# Altium integrated library STMicro-STM32F0.IntLib: 143 symbols (part 10 of 11)
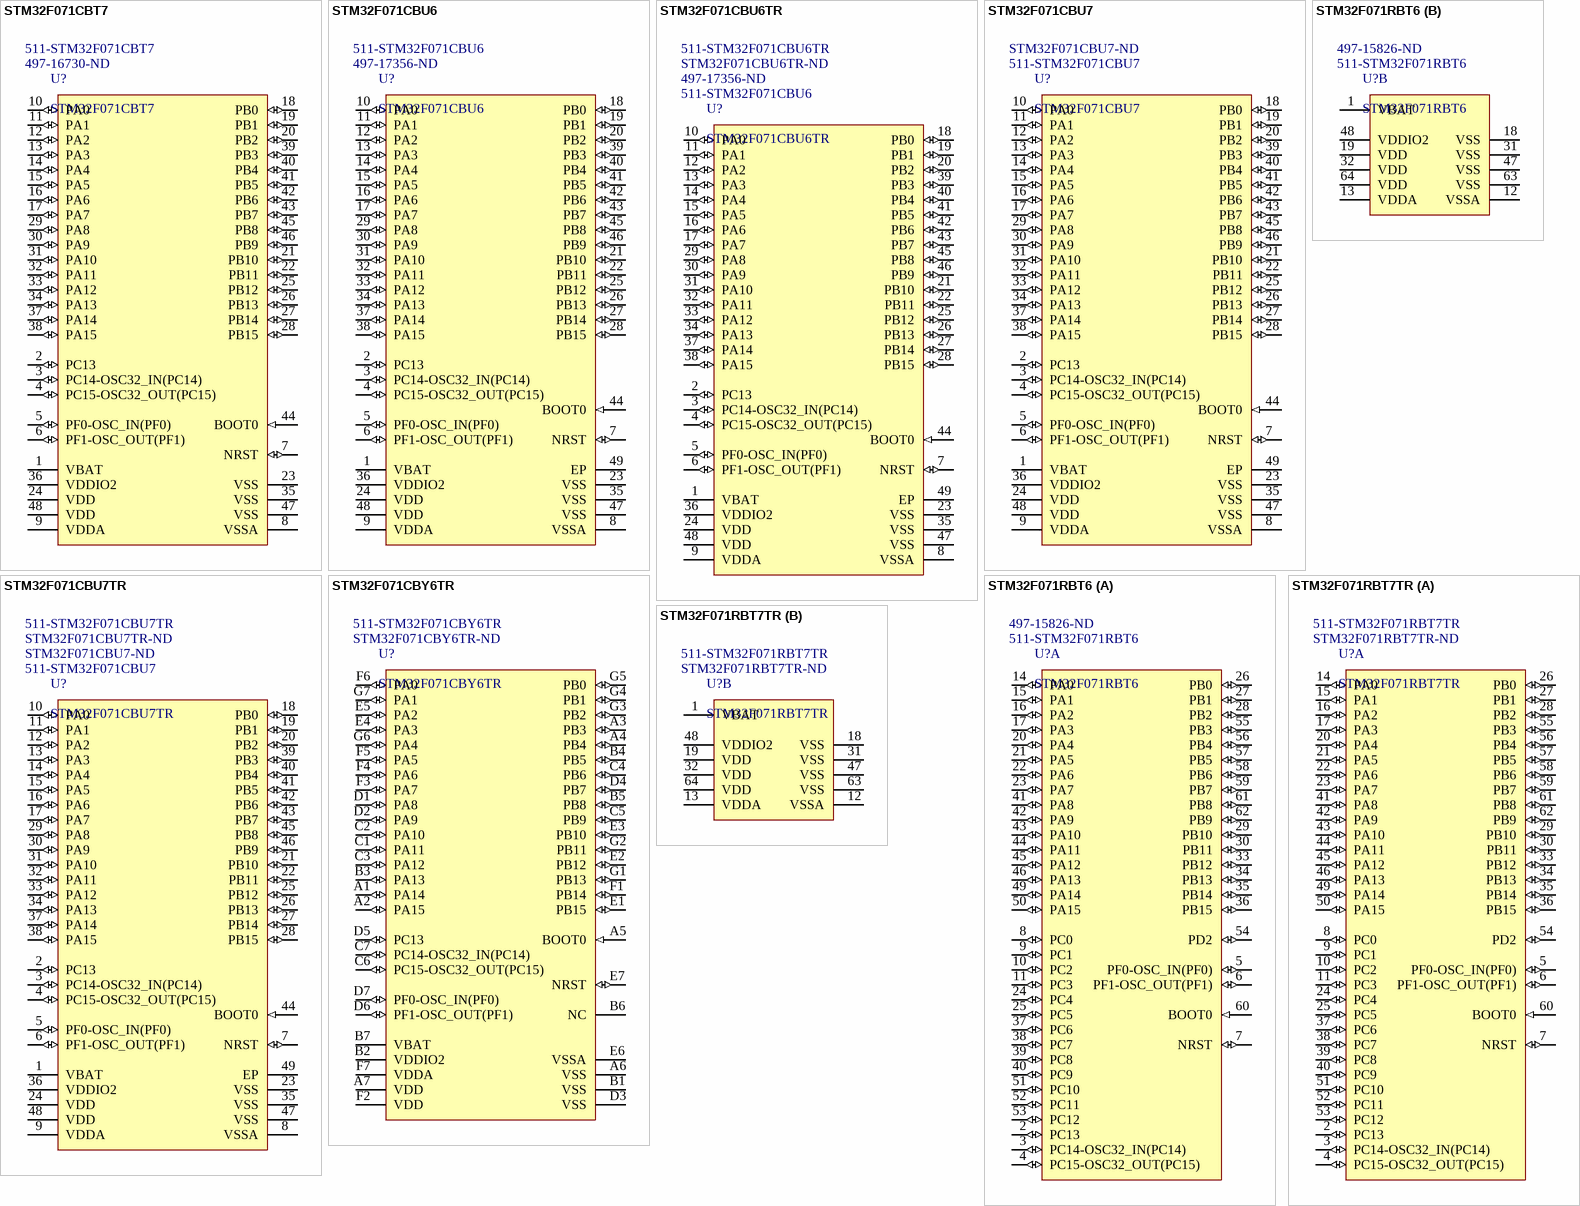
[diagram p23: symbols STM32F071CBT7 to STM32F071RBT7TR]

## STM32F071CBU6
designator U?  Supplier Part Number 1: 497-17356-ND  Supplier Part Number 2: 511-STM32F071CBU6
ARM Cortex-M0 32-bit MCU, 128 KB Flash, 16 KB Internal RAM, 37 I/Os, 48-Pin UFQFPN, -40 to 85 degC, Tray; Operating Frequency(F) (Processor speed) (MHz): 48; D/A Converter: 2; I/Os (High Current): 37; Internal RAM Size (kB): 16; FLASH Size (Prog) (kB): 128; ComponentLink2Description: Datasheet; DatasheetVersion: Rev. 6; ComponentLink2URL: http://www.st.com/st-web-ui/static/active/en/resource/technical/document/datasheet/DM00098745.pdf; Mounting Technology: Surface Mount; Core: ARM Cortex-M0; Packing: Tray; ComponentLink1Description: Manufacturer URL; Supply Voltage(Vcc) min (V): 2; Package Reference: UFQFPN48; Package Description: 48-Pin Ultra Thin Fine Pitch Quad Flat No-Lead, 7 x 7 x 0.6 mm Body, 0.5 mm Pitch, Exposed Pad; ComponentLink1URL: http://www.st.com/; Supplier 1: Digi-Key; Supplier 2: Mouser
footprint STM-UFQFPN48_L (QFN, 48-Leads, Body 7.1x7.1mm, Pitch 0.5mm, Thermal Pad 5.6x5.6mm, IPC High Density)
footprint STM-UFQFPN48_N (QFN, 48-Leads, Body 7.1x7.1mm, Pitch 0.5mm, Thermal Pad 5.6x5.6mm, IPC Medium Density)
footprint STM-UFQFPN48_M (QFN, 48-Leads, Body 7.1x7.1mm, Pitch 0.5mm, Thermal Pad 5.6x5.6mm, IPC Low Density)
pins: 1 VBAT (power) "Backup power supply", 2 PC13 (io) "PC13/WKUP2,RTC_TAMP1,RTC_TS,RTC_OUT", 3 PC14-OSC32_IN(PC14) (io) "PC14-OSC32_IN(PC14)/OSC32_IN", 4 PC15-OSC32_OUT(PC15) (io) "PC15-OSC32_OUT(PC15)/OSC32_OUT", 5 PF0-OSC_IN(PF0) (io) "PF0-OSC_IN(PF0)/CRS_SYNC/OSC_IN", 6 PF1-OSC_OUT(PF1) (io) "PF1-OSC_OUT(PF1)/OSC_OUT", 7 NRST (io) "Device reset input/internal reset output(active low)", 8 VSSA (power) "Analog ground", 9 VDDA (power) "Analog power supply", 10 PA0 (io) "PA0/USART2_CTS,TIM2_CH1_ETR,TSC_G1_IO1,USART4_TX/RTC_TAMP2,WKUP1,COMP1_OUT,ADC_IN0,COMP1_INM6", 11 PA1 (io) "PA1/USART2_RTS,TIM2_CH2,TIM15_CH1N,TSC_G1_IO2,USART4_RX,EVENTOUT/ADC_IN1,COMP1_INP", 12 PA2 (io) "PA2/USART2_TX,TIM2_CH3,TIM15_CH1,TSC_G1_IO3/ADC_IN2,COMP2_OUT,COMP2_INM6,WKUP4", 13 PA3 (io) "PA3/USART2_RX,TIM2_CH4,TIM15_CH2,TSC_G1_IO4/ADC_IN3,COMP2_INP", 14 PA4 (io) "PA4/SPI1_NSS,I2S1_WS,TIM14_CH1,TSC_G2_IO1,USART2_CK/COMP1_INM4,COMP2_INM4,ADC_IN4,DAC_OUT1", 15 PA5 (io) "PA5/SPI1_SCK,I2S1_CK,CEC,TIM2_CH1_ETR,TSC_G2_IO2/COMP1_INM5,COMP2_INM5,ADC_IN5,DAC_OUT2", 16 PA6 (io) "PA6/SPI1_MISO,I2S1_MCK,TIM3_CH1,TIM1_BKIN,TIM16_CH1,COMP1_OUT,TSC_G2_IO3,EVENTOUT,USART3_CTS/ADC_IN6", 17 PA7 (io) "PA7/SPI1_MOSI,I2S1_SD,TIM3_CH2,TIM14_CH1,TIM1_CH1N,TIM17_CH1,COMP2_OUT,TSC_G2_IO4,EVENTOUT/ADC_IN7", 18 PB0 (io) "PB0/TIM3_CH3,TIM1_CH2N,TSC_G3_IO2,EVENTOUT,USART3_CK/ADC_IN8", 19 PB1 (io) "PB1/TIM3_CH4,USART3_RTS,TIM14_CH1,TIM1_CH3N,TSC_G3_IO3/ADC_IN9", 20 PB2 (io) "PB2/TSC_G3_IO4", 21 PB10 (io) "PB10/SPI2_SCK,I2C2_SCL,USART3_TX,CEC,TSC_SYNC,TIM2_CH3", 22 PB11 (io) "PB11/USART3_RX,TIM2_CH4,EVENTOUT,TSC_G6_IO1,I2C2_SDA", 23 VSS (power) "Ground", 24 VDD (power) "Digital power supply", 25 PB12 (io) "PB12/TIM1_BKIN,TIM15_BKIN,SPI2_NSS,I2S2_WS,USART3_CK,TSC_G6_IO2,EVENTOUT", 26 PB13 (io) "PB13/SPI2_SCK,I2S2_CK,I2C2_SCL,USART3_CTS,TIM1_CH1N,TSC_G6_IO3", 27 PB14 (io) "PB14/SPI2_MISO,I2S2_MCK,I2C2_SDA,USART3_RTS,TIM1_CH2N,TIM15_CH1,TSC_G6_IO4", 28 PB15 (io) "PB15/SPI2_MOSI,I2S2_SD,TIM1_CH3N,TIM15_CH1N,TIM15_CH2/WKUP7,RTC_REFIN", 29 PA8 (io) "PA8/USART1_CK,TIM1_CH1,EVENTOUT,MCO,CRS_SYNC", 30 PA9 (io) "PA9/USART1_TX,TIM1_CH2,TIM15_BKIN,TSC_G4_IO1", 31 PA10 (io) "PA10/USART1_RX,TIM1_CH3,TIM17_BKIN,TSC_G4_IO2", 32 PA11 (io) "PA11/USART1_CTS,TIM1_CH4,COMP1_OUT,TSC_G4_IO3,EVENTOUT", 33 PA12 (io) "PA12/USART1_RTS,TIM1_ETR,COMP2_OUT,TSC_G4_IO4,EVENTOUT", 34 PA13 (io) "PA13/IR_OUT,SWDIO", 35 VSS (power) "Ground", 36 VDDIO2 (power) "Digital power supply", 37 PA14 (io) "PA14/USART2_TX,SWCLK", 38 PA15 (io) "PA15/SPI1_NSS,I2S1_WS,USART2_RX,USART4_RTS,TIM2_CH1_ETR,EVENTOUT", 39 PB3 (io) "PB3/SPI1_SCK,I2S1_CK,TIM2_CH2,TSC_G5_IO1,EVENTOUT", 40 PB4 (io) "PB4/SPI1_MISO,I2S1_MCK,TIM17_BKIN,TIM3_CH1,TSC_G5_IO2,EVENTOUT", 41 PB5 (io) "PB5/SPI1_MOSI,I2S1_SD,I2C1_SMBA,TIM16_BKIN,TIM3_CH2/WKUP6", 42 PB6 (io) "PB6/I2C1_SCL,USART1_TX,TIM16_CH1N,TSC_G5_IO3", 43 PB7 (io) "PB7/I2C1_SDA,USART1_RX,USART4_CTS,TIM17_CH1N,TSC_G5_IO4", 44 BOOT0 (in) "Boot memory selection", 45 PB8 (io) "PB8/I2C1_SCL,CEC,TIM16_CH1,TSC_SYNC", 46 PB9 (io) "PB9/SPI2_NSS,I2S2_WS,I2C1_SDA,IR_OUT,TIM17_CH1,EVENTOUT", 47 VSS (power) "Ground", 48 VDD (power) "Digital power supply", 49 EP (power)

## STM32F071CBU6TR
designator U?  Supplier Part Number 1: 511-STM32F071CBU6  Supplier Part Number 2: 497-17356-ND  Supplier Part Number 3: STM32F071CBU6TR-ND  Supplier Part Number 4: 511-STM32F071CBU6TR
ARM Cortex-M0 32-bit MCU, 128 KB Flash, 16 KB Internal RAM, 37 I/Os, 48-Pin UFQFPN, -40 to 85 degC, Tape and Reel; I/Os (High Current): 37; FLASH Size (Prog) (kB): 128; D/A Converter: 2; Internal RAM Size (kB): 16; Operating Frequency(F) (Processor speed) (MHz): 48; Package Description: 48-Pin Ultra Thin Fine Pitch Quad Flat No-Lead, 7 x 7 x 0.6 mm Body, 0.5 mm Pitch, Exposed Pad; Mounting Technology: Surface Mount; DatasheetVersion: Rev. 6; ComponentLink2Description: Datasheet; Core: ARM Cortex-M0; Supply Voltage(Vcc) min (V): 2; ComponentLink1URL: http://www.st.com/; ComponentLink1Description: Manufacturer URL; Packing: Tape and Reel; ComponentLink2URL: http://www.st.com/st-web-ui/static/active/en/resource/technical/document/datasheet/DM00098745.pdf; Package Reference: UFQFPN48; Supplier 1: Mouser; Supplier 2: Digi-Key; Supplier 3: Digi-Key; Supplier 4: Mouser
footprint STM-UFQFPN48_L (QFN, 48-Leads, Body 7.1x7.1mm, Pitch 0.5mm, Thermal Pad 5.6x5.6mm, IPC High Density)
footprint STM-UFQFPN48_N (QFN, 48-Leads, Body 7.1x7.1mm, Pitch 0.5mm, Thermal Pad 5.6x5.6mm, IPC Medium Density)
footprint STM-UFQFPN48_M (QFN, 48-Leads, Body 7.1x7.1mm, Pitch 0.5mm, Thermal Pad 5.6x5.6mm, IPC Low Density)
pins: 1 VBAT (power) "Backup power supply", 2 PC13 (io) "PC13/WKUP2,RTC_TAMP1,RTC_TS,RTC_OUT", 3 PC14-OSC32_IN(PC14) (io) "PC14-OSC32_IN(PC14)/OSC32_IN", 4 PC15-OSC32_OUT(PC15) (io) "PC15-OSC32_OUT(PC15)/OSC32_OUT", 5 PF0-OSC_IN(PF0) (io) "PF0-OSC_IN(PF0)/CRS_SYNC/OSC_IN", 6 PF1-OSC_OUT(PF1) (io) "PF1-OSC_OUT(PF1)/OSC_OUT", 7 NRST (io) "Device reset input/internal reset output(active low)", 8 VSSA (power) "Analog ground", 9 VDDA (power) "Analog power supply", 10 PA0 (io) "PA0/USART2_CTS,TIM2_CH1_ETR,TSC_G1_IO1,USART4_TX/RTC_TAMP2,WKUP1,COMP1_OUT,ADC_IN0,COMP1_INM6", 11 PA1 (io) "PA1/USART2_RTS,TIM2_CH2,TIM15_CH1N,TSC_G1_IO2,USART4_RX,EVENTOUT/ADC_IN1,COMP1_INP", 12 PA2 (io) "PA2/USART2_TX,TIM2_CH3,TIM15_CH1,TSC_G1_IO3/ADC_IN2,COMP2_OUT,COMP2_INM6,WKUP4", 13 PA3 (io) "PA3/USART2_RX,TIM2_CH4,TIM15_CH2,TSC_G1_IO4/ADC_IN3,COMP2_INP", 14 PA4 (io) "PA4/SPI1_NSS,I2S1_WS,TIM14_CH1,TSC_G2_IO1,USART2_CK/COMP1_INM4,COMP2_INM4,ADC_IN4,DAC_OUT1", 15 PA5 (io) "PA5/SPI1_SCK,I2S1_CK,CEC,TIM2_CH1_ETR,TSC_G2_IO2/COMP1_INM5,COMP2_INM5,ADC_IN5,DAC_OUT2", 16 PA6 (io) "PA6/SPI1_MISO,I2S1_MCK,TIM3_CH1,TIM1_BKIN,TIM16_CH1,COMP1_OUT,TSC_G2_IO3,EVENTOUT,USART3_CTS/ADC_IN6", 17 PA7 (io) "PA7/SPI1_MOSI,I2S1_SD,TIM3_CH2,TIM14_CH1,TIM1_CH1N,TIM17_CH1,COMP2_OUT,TSC_G2_IO4,EVENTOUT/ADC_IN7", 18 PB0 (io) "PB0/TIM3_CH3,TIM1_CH2N,TSC_G3_IO2,EVENTOUT,USART3_CK/ADC_IN8", 19 PB1 (io) "PB1/TIM3_CH4,USART3_RTS,TIM14_CH1,TIM1_CH3N,TSC_G3_IO3/ADC_IN9", 20 PB2 (io) "PB2/TSC_G3_IO4", 21 PB10 (io) "PB10/SPI2_SCK,I2C2_SCL,USART3_TX,CEC,TSC_SYNC,TIM2_CH3", 22 PB11 (io) "PB11/USART3_RX,TIM2_CH4,EVENTOUT,TSC_G6_IO1,I2C2_SDA", 23 VSS (power) "Ground", 24 VDD (power) "Digital power supply", 25 PB12 (io) "PB12/TIM1_BKIN,TIM15_BKIN,SPI2_NSS,I2S2_WS,USART3_CK,TSC_G6_IO2,EVENTOUT", 26 PB13 (io) "PB13/SPI2_SCK,I2S2_CK,I2C2_SCL,USART3_CTS,TIM1_CH1N,TSC_G6_IO3", 27 PB14 (io) "PB14/SPI2_MISO,I2S2_MCK,I2C2_SDA,USART3_RTS,TIM1_CH2N,TIM15_CH1,TSC_G6_IO4", 28 PB15 (io) "PB15/SPI2_MOSI,I2S2_SD,TIM1_CH3N,TIM15_CH1N,TIM15_CH2/WKUP7,RTC_REFIN", 29 PA8 (io) "PA8/USART1_CK,TIM1_CH1,EVENTOUT,MCO,CRS_SYNC", 30 PA9 (io) "PA9/USART1_TX,TIM1_CH2,TIM15_BKIN,TSC_G4_IO1", 31 PA10 (io) "PA10/USART1_RX,TIM1_CH3,TIM17_BKIN,TSC_G4_IO2", 32 PA11 (io) "PA11/USART1_CTS,TIM1_CH4,COMP1_OUT,TSC_G4_IO3,EVENTOUT", 33 PA12 (io) "PA12/USART1_RTS,TIM1_ETR,COMP2_OUT,TSC_G4_IO4,EVENTOUT", 34 PA13 (io) "PA13/IR_OUT,SWDIO", 35 VSS (power) "Ground", 36 VDDIO2 (power) "Digital power supply", 37 PA14 (io) "PA14/USART2_TX,SWCLK", 38 PA15 (io) "PA15/SPI1_NSS,I2S1_WS,USART2_RX,USART4_RTS,TIM2_CH1_ETR,EVENTOUT", 39 PB3 (io) "PB3/SPI1_SCK,I2S1_CK,TIM2_CH2,TSC_G5_IO1,EVENTOUT", 40 PB4 (io) "PB4/SPI1_MISO,I2S1_MCK,TIM17_BKIN,TIM3_CH1,TSC_G5_IO2,EVENTOUT", 41 PB5 (io) "PB5/SPI1_MOSI,I2S1_SD,I2C1_SMBA,TIM16_BKIN,TIM3_CH2/WKUP6", 42 PB6 (io) "PB6/I2C1_SCL,USART1_TX,TIM16_CH1N,TSC_G5_IO3", 43 PB7 (io) "PB7/I2C1_SDA,USART1_RX,USART4_CTS,TIM17_CH1N,TSC_G5_IO4", 44 BOOT0 (in) "Boot memory selection", 45 PB8 (io) "PB8/I2C1_SCL,CEC,TIM16_CH1,TSC_SYNC", 46 PB9 (io) "PB9/SPI2_NSS,I2S2_WS,I2C1_SDA,IR_OUT,TIM17_CH1,EVENTOUT", 47 VSS (power) "Ground", 48 VDD (power) "Digital power supply", 49 EP (power)

## STM32F071CBU7
designator U?  Supplier Part Number 1: 511-STM32F071CBU7  Supplier Part Number 2: STM32F071CBU7-ND
ARM Cortex-M0 32-bit MCU, 128 KB Flash, 16 KB Internal RAM, 37 I/Os, 48-Pin UFQFPN, -40 to 105 degC, Tray; FLASH Size (Prog) (kB): 128; Operating Frequency(F) (Processor speed) (MHz): 48; Internal RAM Size (kB): 16; Supply Voltage(Vcc) min (V): 2; I/Os (High Current): 37; ComponentLink1Description: Manufacturer URL; ComponentLink2URL: http://www.st.com/st-web-ui/static/active/en/resource/technical/document/datasheet/DM00098745.pdf; ComponentLink1URL: http://www.st.com/; ComponentLink2Description: Datasheet; Packing: Tray; Mounting Technology: Surface Mount; Package Reference: UFQFPN48; Package Description: 48-Pin Ultra Thin Fine Pitch Quad Flat No-Lead, 7 x 7 x 0.6 mm Body, 0.5 mm Pitch, Exposed Pad; Core: ARM Cortex-M0; D/A Converter: 2; DatasheetVersion: Rev. 6; Supplier 1: Mouser; Supplier 2: Digi-Key
footprint STM-UFQFPN48_L (QFN, 48-Leads, Body 7.1x7.1mm, Pitch 0.5mm, Thermal Pad 5.6x5.6mm, IPC High Density)
footprint STM-UFQFPN48_N (QFN, 48-Leads, Body 7.1x7.1mm, Pitch 0.5mm, Thermal Pad 5.6x5.6mm, IPC Medium Density)
footprint STM-UFQFPN48_M (QFN, 48-Leads, Body 7.1x7.1mm, Pitch 0.5mm, Thermal Pad 5.6x5.6mm, IPC Low Density)
pins: 1 VBAT (power) "Backup power supply", 2 PC13 (io) "PC13/WKUP2,RTC_TAMP1,RTC_TS,RTC_OUT", 3 PC14-OSC32_IN(PC14) (io) "PC14-OSC32_IN(PC14)/OSC32_IN", 4 PC15-OSC32_OUT(PC15) (io) "PC15-OSC32_OUT(PC15)/OSC32_OUT", 5 PF0-OSC_IN(PF0) (io) "PF0-OSC_IN(PF0)/CRS_SYNC/OSC_IN", 6 PF1-OSC_OUT(PF1) (io) "PF1-OSC_OUT(PF1)/OSC_OUT", 7 NRST (io) "Device reset input/internal reset output(active low)", 8 VSSA (power) "Analog ground", 9 VDDA (power) "Analog power supply", 10 PA0 (io) "PA0/USART2_CTS,TIM2_CH1_ETR,TSC_G1_IO1,USART4_TX/RTC_TAMP2,WKUP1,COMP1_OUT,ADC_IN0,COMP1_INM6", 11 PA1 (io) "PA1/USART2_RTS,TIM2_CH2,TIM15_CH1N,TSC_G1_IO2,USART4_RX,EVENTOUT/ADC_IN1,COMP1_INP", 12 PA2 (io) "PA2/USART2_TX,TIM2_CH3,TIM15_CH1,TSC_G1_IO3/ADC_IN2,COMP2_OUT,COMP2_INM6,WKUP4", 13 PA3 (io) "PA3/USART2_RX,TIM2_CH4,TIM15_CH2,TSC_G1_IO4/ADC_IN3,COMP2_INP", 14 PA4 (io) "PA4/SPI1_NSS,I2S1_WS,TIM14_CH1,TSC_G2_IO1,USART2_CK/COMP1_INM4,COMP2_INM4,ADC_IN4,DAC_OUT1", 15 PA5 (io) "PA5/SPI1_SCK,I2S1_CK,CEC,TIM2_CH1_ETR,TSC_G2_IO2/COMP1_INM5,COMP2_INM5,ADC_IN5,DAC_OUT2", 16 PA6 (io) "PA6/SPI1_MISO,I2S1_MCK,TIM3_CH1,TIM1_BKIN,TIM16_CH1,COMP1_OUT,TSC_G2_IO3,EVENTOUT,USART3_CTS/ADC_IN6", 17 PA7 (io) "PA7/SPI1_MOSI,I2S1_SD,TIM3_CH2,TIM14_CH1,TIM1_CH1N,TIM17_CH1,COMP2_OUT,TSC_G2_IO4,EVENTOUT/ADC_IN7", 18 PB0 (io) "PB0/TIM3_CH3,TIM1_CH2N,TSC_G3_IO2,EVENTOUT,USART3_CK/ADC_IN8", 19 PB1 (io) "PB1/TIM3_CH4,USART3_RTS,TIM14_CH1,TIM1_CH3N,TSC_G3_IO3/ADC_IN9", 20 PB2 (io) "PB2/TSC_G3_IO4", 21 PB10 (io) "PB10/SPI2_SCK,I2C2_SCL,USART3_TX,CEC,TSC_SYNC,TIM2_CH3", 22 PB11 (io) "PB11/USART3_RX,TIM2_CH4,EVENTOUT,TSC_G6_IO1,I2C2_SDA", 23 VSS (power) "Ground", 24 VDD (power) "Digital power supply", 25 PB12 (io) "PB12/TIM1_BKIN,TIM15_BKIN,SPI2_NSS,I2S2_WS,USART3_CK,TSC_G6_IO2,EVENTOUT", 26 PB13 (io) "PB13/SPI2_SCK,I2S2_CK,I2C2_SCL,USART3_CTS,TIM1_CH1N,TSC_G6_IO3", 27 PB14 (io) "PB14/SPI2_MISO,I2S2_MCK,I2C2_SDA,USART3_RTS,TIM1_CH2N,TIM15_CH1,TSC_G6_IO4", 28 PB15 (io) "PB15/SPI2_MOSI,I2S2_SD,TIM1_CH3N,TIM15_CH1N,TIM15_CH2/WKUP7,RTC_REFIN", 29 PA8 (io) "PA8/USART1_CK,TIM1_CH1,EVENTOUT,MCO,CRS_SYNC", 30 PA9 (io) "PA9/USART1_TX,TIM1_CH2,TIM15_BKIN,TSC_G4_IO1", 31 PA10 (io) "PA10/USART1_RX,TIM1_CH3,TIM17_BKIN,TSC_G4_IO2", 32 PA11 (io) "PA11/USART1_CTS,TIM1_CH4,COMP1_OUT,TSC_G4_IO3,EVENTOUT", 33 PA12 (io) "PA12/USART1_RTS,TIM1_ETR,COMP2_OUT,TSC_G4_IO4,EVENTOUT", 34 PA13 (io) "PA13/IR_OUT,SWDIO", 35 VSS (power) "Ground", 36 VDDIO2 (power) "Digital power supply", 37 PA14 (io) "PA14/USART2_TX,SWCLK", 38 PA15 (io) "PA15/SPI1_NSS,I2S1_WS,USART2_RX,USART4_RTS,TIM2_CH1_ETR,EVENTOUT", 39 PB3 (io) "PB3/SPI1_SCK,I2S1_CK,TIM2_CH2,TSC_G5_IO1,EVENTOUT", 40 PB4 (io) "PB4/SPI1_MISO,I2S1_MCK,TIM17_BKIN,TIM3_CH1,TSC_G5_IO2,EVENTOUT", 41 PB5 (io) "PB5/SPI1_MOSI,I2S1_SD,I2C1_SMBA,TIM16_BKIN,TIM3_CH2/WKUP6", 42 PB6 (io) "PB6/I2C1_SCL,USART1_TX,TIM16_CH1N,TSC_G5_IO3", 43 PB7 (io) "PB7/I2C1_SDA,USART1_RX,USART4_CTS,TIM17_CH1N,TSC_G5_IO4", 44 BOOT0 (in) "Boot memory selection", 45 PB8 (io) "PB8/I2C1_SCL,CEC,TIM16_CH1,TSC_SYNC", 46 PB9 (io) "PB9/SPI2_NSS,I2S2_WS,I2C1_SDA,IR_OUT,TIM17_CH1,EVENTOUT", 47 VSS (power) "Ground", 48 VDD (power) "Digital power supply", 49 EP (power)

## STM32F071CBU7TR
designator U?  Supplier Part Number 1: 511-STM32F071CBU7  Supplier Part Number 2: STM32F071CBU7-ND  Supplier Part Number 3: STM32F071CBU7TR-ND  Supplier Part Number 4: 511-STM32F071CBU7TR
ARM Cortex-M0 32-bit MCU, 128 KB Flash, 16 KB Internal RAM, 37 I/Os, 48-Pin UFQFPN, -40 to 105 degC, Tape and Reel; I/Os (High Current): 37; Operating Frequency(F) (Processor speed) (MHz): 48; FLASH Size (Prog) (kB): 128; Supply Voltage(Vcc) min (V): 2; Internal RAM Size (kB): 16; ComponentLink2URL: http://www.st.com/st-web-ui/static/active/en/resource/technical/document/datasheet/DM00098745.pdf; ComponentLink1URL: http://www.st.com/; Core: ARM Cortex-M0; ComponentLink1Description: Manufacturer URL; D/A Converter: 2; ComponentLink2Description: Datasheet; Package Reference: UFQFPN48; Mounting Technology: Surface Mount; Packing: Tape and Reel; DatasheetVersion: Rev. 6; Package Description: 48-Pin Ultra Thin Fine Pitch Quad Flat No-Lead, 7 x 7 x 0.6 mm Body, 0.5 mm Pitch, Exposed Pad; Supplier 1: Mouser; Supplier 2: Digi-Key; Supplier 3: Digi-Key; Supplier 4: Mouser
footprint STM-UFQFPN48_L (QFN, 48-Leads, Body 7.1x7.1mm, Pitch 0.5mm, Thermal Pad 5.6x5.6mm, IPC High Density)
footprint STM-UFQFPN48_N (QFN, 48-Leads, Body 7.1x7.1mm, Pitch 0.5mm, Thermal Pad 5.6x5.6mm, IPC Medium Density)
footprint STM-UFQFPN48_M (QFN, 48-Leads, Body 7.1x7.1mm, Pitch 0.5mm, Thermal Pad 5.6x5.6mm, IPC Low Density)
pins: 1 VBAT (power) "Backup power supply", 2 PC13 (io) "PC13/WKUP2,RTC_TAMP1,RTC_TS,RTC_OUT", 3 PC14-OSC32_IN(PC14) (io) "PC14-OSC32_IN(PC14)/OSC32_IN", 4 PC15-OSC32_OUT(PC15) (io) "PC15-OSC32_OUT(PC15)/OSC32_OUT", 5 PF0-OSC_IN(PF0) (io) "PF0-OSC_IN(PF0)/CRS_SYNC/OSC_IN", 6 PF1-OSC_OUT(PF1) (io) "PF1-OSC_OUT(PF1)/OSC_OUT", 7 NRST (io) "Device reset input/internal reset output(active low)", 8 VSSA (power) "Analog ground", 9 VDDA (power) "Analog power supply", 10 PA0 (io) "PA0/USART2_CTS,TIM2_CH1_ETR,TSC_G1_IO1,USART4_TX/RTC_TAMP2,WKUP1,COMP1_OUT,ADC_IN0,COMP1_INM6", 11 PA1 (io) "PA1/USART2_RTS,TIM2_CH2,TIM15_CH1N,TSC_G1_IO2,USART4_RX,EVENTOUT/ADC_IN1,COMP1_INP", 12 PA2 (io) "PA2/USART2_TX,TIM2_CH3,TIM15_CH1,TSC_G1_IO3/ADC_IN2,COMP2_OUT,COMP2_INM6,WKUP4", 13 PA3 (io) "PA3/USART2_RX,TIM2_CH4,TIM15_CH2,TSC_G1_IO4/ADC_IN3,COMP2_INP", 14 PA4 (io) "PA4/SPI1_NSS,I2S1_WS,TIM14_CH1,TSC_G2_IO1,USART2_CK/COMP1_INM4,COMP2_INM4,ADC_IN4,DAC_OUT1", 15 PA5 (io) "PA5/SPI1_SCK,I2S1_CK,CEC,TIM2_CH1_ETR,TSC_G2_IO2/COMP1_INM5,COMP2_INM5,ADC_IN5,DAC_OUT2", 16 PA6 (io) "PA6/SPI1_MISO,I2S1_MCK,TIM3_CH1,TIM1_BKIN,TIM16_CH1,COMP1_OUT,TSC_G2_IO3,EVENTOUT,USART3_CTS/ADC_IN6", 17 PA7 (io) "PA7/SPI1_MOSI,I2S1_SD,TIM3_CH2,TIM14_CH1,TIM1_CH1N,TIM17_CH1,COMP2_OUT,TSC_G2_IO4,EVENTOUT/ADC_IN7", 18 PB0 (io) "PB0/TIM3_CH3,TIM1_CH2N,TSC_G3_IO2,EVENTOUT,USART3_CK/ADC_IN8", 19 PB1 (io) "PB1/TIM3_CH4,USART3_RTS,TIM14_CH1,TIM1_CH3N,TSC_G3_IO3/ADC_IN9", 20 PB2 (io) "PB2/TSC_G3_IO4", 21 PB10 (io) "PB10/SPI2_SCK,I2C2_SCL,USART3_TX,CEC,TSC_SYNC,TIM2_CH3", 22 PB11 (io) "PB11/USART3_RX,TIM2_CH4,EVENTOUT,TSC_G6_IO1,I2C2_SDA", 23 VSS (power) "Ground", 24 VDD (power) "Digital power supply", 25 PB12 (io) "PB12/TIM1_BKIN,TIM15_BKIN,SPI2_NSS,I2S2_WS,USART3_CK,TSC_G6_IO2,EVENTOUT", 26 PB13 (io) "PB13/SPI2_SCK,I2S2_CK,I2C2_SCL,USART3_CTS,TIM1_CH1N,TSC_G6_IO3", 27 PB14 (io) "PB14/SPI2_MISO,I2S2_MCK,I2C2_SDA,USART3_RTS,TIM1_CH2N,TIM15_CH1,TSC_G6_IO4", 28 PB15 (io) "PB15/SPI2_MOSI,I2S2_SD,TIM1_CH3N,TIM15_CH1N,TIM15_CH2/WKUP7,RTC_REFIN", 29 PA8 (io) "PA8/USART1_CK,TIM1_CH1,EVENTOUT,MCO,CRS_SYNC", 30 PA9 (io) "PA9/USART1_TX,TIM1_CH2,TIM15_BKIN,TSC_G4_IO1", 31 PA10 (io) "PA10/USART1_RX,TIM1_CH3,TIM17_BKIN,TSC_G4_IO2", 32 PA11 (io) "PA11/USART1_CTS,TIM1_CH4,COMP1_OUT,TSC_G4_IO3,EVENTOUT", 33 PA12 (io) "PA12/USART1_RTS,TIM1_ETR,COMP2_OUT,TSC_G4_IO4,EVENTOUT", 34 PA13 (io) "PA13/IR_OUT,SWDIO", 35 VSS (power) "Ground", 36 VDDIO2 (power) "Digital power supply", 37 PA14 (io) "PA14/USART2_TX,SWCLK", 38 PA15 (io) "PA15/SPI1_NSS,I2S1_WS,USART2_RX,USART4_RTS,TIM2_CH1_ETR,EVENTOUT", 39 PB3 (io) "PB3/SPI1_SCK,I2S1_CK,TIM2_CH2,TSC_G5_IO1,EVENTOUT", 40 PB4 (io) "PB4/SPI1_MISO,I2S1_MCK,TIM17_BKIN,TIM3_CH1,TSC_G5_IO2,EVENTOUT", 41 PB5 (io) "PB5/SPI1_MOSI,I2S1_SD,I2C1_SMBA,TIM16_BKIN,TIM3_CH2/WKUP6", 42 PB6 (io) "PB6/I2C1_SCL,USART1_TX,TIM16_CH1N,TSC_G5_IO3", 43 PB7 (io) "PB7/I2C1_SDA,USART1_RX,USART4_CTS,TIM17_CH1N,TSC_G5_IO4", 44 BOOT0 (in) "Boot memory selection", 45 PB8 (io) "PB8/I2C1_SCL,CEC,TIM16_CH1,TSC_SYNC", 46 PB9 (io) "PB9/SPI2_NSS,I2S2_WS,I2C1_SDA,IR_OUT,TIM17_CH1,EVENTOUT", 47 VSS (power) "Ground", 48 VDD (power) "Digital power supply", 49 EP (power)

## STM32F071CBY6TR
designator U?  Supplier Part Number 1: STM32F071CBY6TR-ND  Supplier Part Number 2: 511-STM32F071CBY6TR
ARM Cortex-M0 32-bit MCU, 128 KB Flash, 16 KB Internal RAM, 37 I/Os, 49-Pin WLCSP49, -40 to 85 degC, Tape and Reel; I/Os (High Current): 37; FLASH Size (Prog) (kB): 128; Operating Frequency(F) (Processor speed) (MHz): 48; D/A Converter: 2; Internal RAM Size (kB): 16; Core: ARM Cortex-M0; ComponentLink1Description: Manufacturer URL; ComponentLink1URL: http://www.st.com/; ComponentLink2Description: Datasheet; Package Reference: WLCSP49; ComponentLink2URL: http://www.st.com/st-web-ui/static/active/en/resource/technical/document/datasheet/DM00098745.pdf; Supply Voltage(Vcc) min (V): 2; DatasheetVersion: Rev. 6; Packing: Tape and Reel; Mounting Technology: Surface Mount; Package Description: 49-Ball Wafer Level Chip Size Package, 0.4 mm Pitch; Supplier 1: Digi-Key; Supplier 2: Mouser
footprint STM-WLCSP49 (BGA, 49-Balls, Body 2.97x2.97mm, Pitch 0.4mm)
pins: A1 PA14 (io) "PA14/USART2_TX,SWCLK", A2 PA15 (io) "PA15/SPI1_NSS,I2S1_WS,USART2_RX,USART4_RTS,TIM2_CH1_ETR,EVENTOUT", A3 PB3 (io) "PB3/SPI1_SCK,I2S1_CK,TIM2_CH2,TSC_G5_IO1,EVENTOUT", A4 PB4 (io) "PB4/SPI1_MISO,I2S1_MCK,TIM17_BKIN,TIM3_CH1,TSC_G5_IO2,EVENTOUT", A5 BOOT0 (in) "Boot memory selection", A6 VSS (power) "Ground", A7 VDD (power) "Digital power supply", B1 VSS (power) "Ground", B2 VDDIO2 (power) "Digital power supply", B3 PA13 (io) "PA13/IR_OUT,SWDIO", B4 PB5 (io) "PB5/SPI1_MOSI,I2S1_SD,I2C1_SMBA,TIM16_BKIN,TIM3_CH2/WKUP6", B5 PB8 (io) "PB8/I2C1_SCL,CEC,TIM16_CH1,TSC_SYNC", B6 NC, B7 VBAT (power) "Backup power supply", C1 PA11 (io) "PA11/USART1_CTS,TIM1_CH4,COMP1_OUT,TSC_G4_IO3,EVENTOUT", C2 PA10 (io) "PA10/USART1_RX,TIM1_CH3,TIM17_BKIN,TSC_G4_IO2", C3 PA12 (io) "PA12/USART1_RTS,TIM1_ETR,COMP2_OUT,TSC_G4_IO4,EVENTOUT", C4 PB6 (io) "PB6/I2C1_SCL,USART1_TX,TIM16_CH1N,TSC_G5_IO3", C5 PB9 (io) "PB9/SPI2_NSS,I2S2_WS,I2C1_SDA,IR_OUT,TIM17_CH1,EVENTOUT", C6 PC15-OSC32_OUT(PC15) (io) "PC15-OSC32_OUT(PC15)/OSC32_OUT", C7 PC14-OSC32_IN(PC14) (io) "PC14-OSC32_IN(PC14)/OSC32_IN", D1 PA8 (io) "PA8/USART1_CK,TIM1_CH1,EVENTOUT,MCO,CRS_SYNC", D2 PA9 (io) "PA9/USART1_TX,TIM1_CH2,TIM15_BKIN,TSC_G4_IO1", D3 VSS (power) "Ground", D4 PB7 (io) "PB7/I2C1_SDA,USART1_RX,USART4_CTS,TIM17_CH1N,TSC_G5_IO4", D5 PC13 (io) "PC13/WKUP2,RTC_TAMP1,RTC_TS,RTC_OUT", D6 PF1-OSC_OUT(PF1) (io) "PF1-OSC_OUT(PF1)/OSC_OUT", D7 PF0-OSC_IN(PF0) (io) "PF0-OSC_IN(PF0)/CRS_SYNC/OSC_IN", E1 PB15 (io) "PB15/SPI2_MOSI,I2S2_SD,TIM1_CH3N,TIM15_CH1N,TIM15_CH2/WKUP7,RTC_REFIN", E2 PB12 (io) "PB12/TIM1_BKIN,TIM15_BKIN,SPI2_NSS,I2S2_WS,USART3_CK,TSC_G6_IO2,EVENTOUT", E3 PB10 (io) "PB10/SPI2_SCK,I2C2_SCL,USART3_TX,CEC,TSC_SYNC,TIM2_CH3", E4 PA3 (io) "PA3/USART2_RX,TIM2_CH4,TIM15_CH2,TSC_G1_IO4/ADC_IN3,COMP2_INP", E5 PA2 (io) "PA2/USART2_TX,TIM2_CH3,TIM15_CH1,TSC_G1_IO3/ADC_IN2,COMP2_OUT,COMP2_INM6,WKUP4", E6 VSSA (power) "Analog ground", E7 NRST (io) "Device reset input/internal reset output(active low)", F1 PB14 (io) "PB14/SPI2_MISO,I2S2_MCK,I2C2_SDA,USART3_RTS,TIM1_CH2N,TIM15_CH1,TSC_G6_IO4", F2 VDD (power) "Digital power supply", F3 PA7 (io) "PA7/SPI1_MOSI,I2S1_SD,TIM3_CH2,TIM14_CH1,TIM1_CH1N,TIM17_CH1,COMP2_OUT,TSC_G2_IO4,EVENTOUT/ADC_IN7", F4 PA6 (io) "PA6/SPI1_MISO,I2S1_MCK,TIM3_CH1,TIM1_BKIN,TIM16_CH1,COMP1_OUT,TSC_G2_IO3,EVENTOUT,USART3_CTS/ADC_IN6", F5 PA5 (io) "PA5/SPI1_SCK,I2S1_CK,CEC,TIM2_CH1_ETR,TSC_G2_IO2/COMP1_INM5,COMP2_INM5,ADC_IN5,DAC_OUT2", F6 PA0 (io) "PA0/USART2_CTS,TIM2_CH1_ETR,TSC_G1_IO1,USART4_TX/RTC_TAMP2,WKUP1,COMP1_OUT,ADC_IN0,COMP1_INM6", F7 VDDA (power) "Analog power supply", G1 PB13 (io) "PB13/SPI2_SCK,I2S2_CK,I2C2_SCL,USART3_CTS,TIM1_CH1N,TSC_G6_IO3", G2 PB11 (io) "PB11/USART3_RX,TIM2_CH4,EVENTOUT,TSC_G6_IO1,I2C2_SDA", G3 PB2 (io) "PB2/TSC_G3_IO4", G4 PB1 (io) "PB1/TIM3_CH4,USART3_RTS,TIM14_CH1,TIM1_CH3N,TSC_G3_IO3/ADC_IN9", G5 PB0 (io) "PB0/TIM3_CH3,TIM1_CH2N,TSC_G3_IO2,EVENTOUT,USART3_CK/ADC_IN8", G6 PA4 (io) "PA4/SPI1_NSS,I2S1_WS,TIM14_CH1,TSC_G2_IO1,USART2_CK/COMP1_INM4,COMP2_INM4,ADC_IN4,DAC_OUT1", G7 PA1 (io) "PA1/USART2_RTS,TIM2_CH2,TIM15_CH1N,TSC_G1_IO2,USART4_RX,EVENTOUT/ADC_IN1,COMP1_INP"

## STM32F071RBT6
designator U?  Supplier Part Number 1: 511-STM32F071RBT6  Supplier Part Number 2: 497-15826-ND
ARM Cortex-M0 32-bit MCU, 128 KB Flash, 16 KB Internal RAM, 51 I/Os, 64-Pin LQFP, -40 to 85 degC, Tray; Supply Voltage(Vcc) min (V): 2; I/Os (High Current): 51; Operating Frequency(F) (Processor speed) (MHz): 48; FLASH Size (Prog) (kB): 128; Internal RAM Size (kB): 16; Packing: Tray; D/A Converter: 2; ComponentLink2Description: Datasheet; ComponentLink2URL: http://www.st.com/st-web-ui/static/active/en/resource/technical/document/datasheet/DM00098745.pdf; Core: ARM Cortex-M0; DatasheetVersion: Rev. 6; ComponentLink1Description: Manufacturer URL; Package Description: 64-Pin Low-profile Quad Flat Package, Body 10 x 10 mm, Pitch 0.5 mm; ComponentLink1URL: http://www.st.com/; Package Reference: LQFP64; Mounting Technology: Surface Mount; Supplier 1: Mouser; Supplier 2: Digi-Key
footprint STM-LQFP64_N (QFP, 64-Leads, Body 10x10mm, Pitch 0.5mm, IPC Medium Density)
footprint STM-LQFP64_M (QFP, 64-Leads, Body 10x10mm, Pitch 0.5mm, IPC Low Density)
footprint STM-LQFP64_L (QFP, 64-Leads, Body 10x10mm, Pitch 0.5mm, IPC High Density)
part A pins: 2 PC13 (io) "PC13/WKUP2,RTC_TAMP1,RTC_TS,RTC_OUT", 3 PC14-OSC32_IN(PC14) (io) "PC14/OSC32_IN", 4 PC15-OSC32_OUT(PC15) (io) "PC15/OSC32_OUT", 5 PF0-OSC_IN(PF0) (io) "PF0/CRS_SYNC/OSC_IN", 6 PF1-OSC_OUT(PF1) (io) "PF1/OSC_OUT", 7 NRST (io) "Device reset input/internal reset output(active low)", 8 PC0 (io) "PC0/EVENTOUT/ADC_IN10", 9 PC1 (io) "PC1/EVENTOUT/ADC_IN11", 10 PC2 (io) "PC2/SPI2_MISO,I2S2_MCK,EVENTOUT/ADC_IN12", 11 PC3 (io) "PC3/SPI2_MOSI,I2S2_SD,EVENTOUT/ADC_IN13", 14 PA0 (io) "PA0/USART2_CTS,TIM2_CH1_ETR,TSC_G1_IO1,USART4_TX/RTC_TAMP2,WKUP1,COMP1_OUT,ADC_IN0,COMP1_INM6", 15 PA1 (io) "PA1/USART2_RTS,TIM2_CH2,TIM15_CH1N,TSC_G1_IO2,USART4_RX,EVENTOUT/ADC_IN1,COMP1_INP", 16 PA2 (io) "PA2/USART2_TX,TIM2_CH3,TIM15_CH1,TSC_G1_IO3/ADC_IN2,COMP2_OUT,COMP2_INM6,WKUP4", 17 PA3 (io) "PA3/USART2_RX,TIM2_CH4,TIM15_CH2,TSC_G1_IO4/ADC_IN3,COMP2_INP", 20 PA4 (io) "PA4/SPI1_NSS,I2S1_WS,TIM14_CH1,TSC_G2_IO1,USART2_CK/COMP1_INM4,COMP2_INM4,ADC_IN4,DAC_OUT1", 21 PA5 (io) "PA5/SPI1_SCK,I2S1_CK,CEC,TIM2_CH1_ETR,TSC_G2_IO2/COMP1_INM5,COMP2_INM5,ADC_IN5,DAC_OUT2", 22 PA6 (io) "PA6/SPI1_MISO,I2S1_MCK,TIM3_CH1,TIM1_BKIN,TIM16_CH1,COMP1_OUT,TSC_G2_IO3,EVENTOUT,USART3_CTS/ADC_IN6", 23 PA7 (io) "PA7/SPI1_MOSI,I2S1_SD,TIM3_CH2,TIM14_CH1,TIM1_CH1N,TIM17_CH1,COMP2_OUT,TSC_G2_IO4,EVENTOUT/ADC_IN7", 24 PC4 (io) "PC4/EVENTOUT,USART3_TX/ADC_IN14", 25 PC5 (io) "PC5/TSC_G3_IO1,USART3_RX/ADC_IN15,WKUP5", 26 PB0 (io) "PB0/TIM3_CH3,TIM1_CH2N,TSC_G3_IO2,EVENTOUT,USART3_CK/ADC_IN8", 27 PB1 (io) "PB1/TIM3_CH4,USART3_RTS,TIM14_CH1,TIM1_CH3N,TSC_G3_IO3/ADC_IN9", 28 PB2 (io) "PB2/TSC_G3_IO4", 29 PB10 (io) "PB10/SPI2_SCK,I2C2_SCL,USART3_TX,CEC,TSC_SYNC,TIM2_CH3", 30 PB11 (io) "PB11/USART3_RX,TIM2_CH4,EVENTOUT,TSC_G6_IO1,I2C2_SDA", 33 PB12 (io) "PB12/TIM1_BKIN,TIM15_BKIN,SPI2_NSS,I2S2_WS,USART3_CK,TSC_G6_IO2,EVENTOUT", 34 PB13 (io) "PB13/SPI2_SCK,I2S2_CK,I2C2_SCL,USART3_CTS,TIM1_CH1N,TSC_G6_IO3", 35 PB14 (io) "PB14/SPI2_MISO,I2S2_MCK,I2C2_SDA,USART3_RTS,TIM1_CH2N,TIM15_CH1,TSC_G6_IO4", 36 PB15 (io) "PB15/SPI2_MOSI,I2S2_SD,TIM1_CH3N,TIM15_CH1N,TIM15_CH2/WKUP7,RTC_REFIN", 37 PC6 (io) "PC6/TIM3_CH1", 38 PC7 (io) "PC7/TIM3_CH2", 39 PC8 (io) "PC8/TIM3_CH3", 40 PC9 (io) "PC9/TIM3_CH4", 41 PA8 (io) "PA8/USART1_CK,TIM1_CH1,EVENTOUT,MCO,CRS_SYNC", 42 PA9 (io) "PA9/USART1_TX,TIM1_CH2,TIM15_BKIN,TSC_G4_IO1", 43 PA10 (io) "PA10/USART1_RX,TIM1_CH3,TIM17_BKIN,TSC_G4_IO2", 44 PA11 (io) "PA11/USART1_CTS,TIM1_CH4,COMP1_OUT,TSC_G4_IO3,EVENTOUT", 45 PA12 (io) "PA12/USART1_RTS,TIM1_ETR,COMP2_OUT,TSC_G4_IO4,EVENTOUT", 46 PA13 (io) "PA13/IR_OUT,SWDIO", 49 PA14 (io) "PA14/USART2_TX,SWCLK", 50 PA15 (io) "PA15/SPI1_NSS,I2S1_WS,USART2_RX,USART4_RTS,TIM2_CH1_ETR,EVENTOUT", 51 PC10 (io) "PC10/USART3_TX,USART4_TX", 52 PC11 (io) "PC11/USART3_RX,USART4_RX", 53 PC12 (io) "PC12/USART3_CK,USART4_CK", 54 PD2 (io) "PD2/USART3_RTS,TIM3_ETR", 55 PB3 (io) "PB3/SPI1_SCK,I2S1_CK,TIM2_CH2,TSC_G5_IO1,EVENTOUT", 56 PB4 (io) "PB4/SPI1_MISO,I2S1_MCK,TIM17_BKIN,TIM3_CH1,TSC_G5_IO2,EVENTOUT", 57 PB5 (io) "PB5/SPI1_MOSI,I2S1_SD,I2C1_SMBA,TIM16_BKIN,TIM3_CH2/WKUP6", 58 PB6 (io) "PB6/I2C1_SCL,USART1_TX,TIM16_CH1N,TSC_G5_I03", 59 PB7 (io) "PB7/I2C1_SDA,USART1_RX,USART4_CTS,TIM17_CH1N,TSC_G5_IO4", 60 BOOT0 (in) "Boot memory selection", 61 PB8 (io) "PB8/I2C1_SCL,CEC,TIM16_CH1,TSC_SYNC", 62 PB9 (io) "PB9/SPI2_NSS,I2S2_WS,I2C1_SDA,IR_OUT,TIM17_CH1,EVENTOUT"
part B pins: 1 VBAT (power) "Backup power supply", 12 VSSA (power) "Analog ground", 13 VDDA (power) "Analog power supply", 18 VSS (power) "Ground", 19 VDD (power) "Digital power supply", 31 VSS (power) "Ground", 32 VDD (power) "Digital power supply", 47 VSS (power) "Ground", 48 VDDIO2 (power) "Digital power supply", 63 VSS (power) "Ground", 64 VDD (power) "Digital power supply"

## STM32F071RBT7TR
designator U?  Supplier Part Number 1: STM32F071RBT7TR-ND  Supplier Part Number 2: 511-STM32F071RBT7TR
ARM Cortex-M0 32-bit MCU, 128 KB Flash, 16 KB Internal RAM, 51 I/Os, 64-Pin LQFP, -40 to 105 degC, Tape and Reel; Internal RAM Size (kB): 16; Operating Frequency(F) (Processor speed) (MHz): 48; Supply Voltage(Vcc) min (V): 2; FLASH Size (Prog) (kB): 128; I/Os (High Current): 51; Package Reference: LQFP64; Mounting Technology: Surface Mount; D/A Converter: 2; ComponentLink2Description: Datasheet; Packing: Tape and Reel; DatasheetVersion: Rev. 6; Package Description: 64-Pin Low-profile Quad Flat Package, Body 10 x 10 mm, Pitch 0.5 mm; ComponentLink2URL: http://www.st.com/st-web-ui/static/active/en/resource/technical/document/datasheet/DM00098745.pdf; ComponentLink1URL: http://www.st.com/; ComponentLink1Description: Manufacturer URL; Core: ARM Cortex-M0; Supplier 1: Digi-Key; Supplier 2: Mouser
footprint STM-LQFP64_N (QFP, 64-Leads, Body 10x10mm, Pitch 0.5mm, IPC Medium Density)
footprint STM-LQFP64_M (QFP, 64-Leads, Body 10x10mm, Pitch 0.5mm, IPC Low Density)
footprint STM-LQFP64_L (QFP, 64-Leads, Body 10x10mm, Pitch 0.5mm, IPC High Density)
part A pins: 2 PC13 (io) "PC13/WKUP2,RTC_TAMP1,RTC_TS,RTC_OUT", 3 PC14-OSC32_IN(PC14) (io) "PC14/OSC32_IN", 4 PC15-OSC32_OUT(PC15) (io) "PC15/OSC32_OUT", 5 PF0-OSC_IN(PF0) (io) "PF0/CRS_SYNC/OSC_IN", 6 PF1-OSC_OUT(PF1) (io) "PF1/OSC_OUT", 7 NRST (io) "Device reset input/internal reset output(active low)", 8 PC0 (io) "PC0/EVENTOUT/ADC_IN10", 9 PC1 (io) "PC1/EVENTOUT/ADC_IN11", 10 PC2 (io) "PC2/SPI2_MISO,I2S2_MCK,EVENTOUT/ADC_IN12", 11 PC3 (io) "PC3/SPI2_MOSI,I2S2_SD,EVENTOUT/ADC_IN13", 14 PA0 (io) "PA0/USART2_CTS,TIM2_CH1_ETR,TSC_G1_IO1,USART4_TX/RTC_TAMP2,WKUP1,COMP1_OUT,ADC_IN0,COMP1_INM6", 15 PA1 (io) "PA1/USART2_RTS,TIM2_CH2,TIM15_CH1N,TSC_G1_IO2,USART4_RX,EVENTOUT/ADC_IN1,COMP1_INP", 16 PA2 (io) "PA2/USART2_TX,TIM2_CH3,TIM15_CH1,TSC_G1_IO3/ADC_IN2,COMP2_OUT,COMP2_INM6,WKUP4", 17 PA3 (io) "PA3/USART2_RX,TIM2_CH4,TIM15_CH2,TSC_G1_IO4/ADC_IN3,COMP2_INP", 20 PA4 (io) "PA4/SPI1_NSS,I2S1_WS,TIM14_CH1,TSC_G2_IO1,USART2_CK/COMP1_INM4,COMP2_INM4,ADC_IN4,DAC_OUT1", 21 PA5 (io) "PA5/SPI1_SCK,I2S1_CK,CEC,TIM2_CH1_ETR,TSC_G2_IO2/COMP1_INM5,COMP2_INM5,ADC_IN5,DAC_OUT2", 22 PA6 (io) "PA6/SPI1_MISO,I2S1_MCK,TIM3_CH1,TIM1_BKIN,TIM16_CH1,COMP1_OUT,TSC_G2_IO3,EVENTOUT,USART3_CTS/ADC_IN6", 23 PA7 (io) "PA7/SPI1_MOSI,I2S1_SD,TIM3_CH2,TIM14_CH1,TIM1_CH1N,TIM17_CH1,COMP2_OUT,TSC_G2_IO4,EVENTOUT/ADC_IN7", 24 PC4 (io) "PC4/EVENTOUT,USART3_TX/ADC_IN14", 25 PC5 (io) "PC5/TSC_G3_IO1,USART3_RX/ADC_IN15,WKUP5", 26 PB0 (io) "PB0/TIM3_CH3,TIM1_CH2N,TSC_G3_IO2,EVENTOUT,USART3_CK/ADC_IN8", 27 PB1 (io) "PB1/TIM3_CH4,USART3_RTS,TIM14_CH1,TIM1_CH3N,TSC_G3_IO3/ADC_IN9", 28 PB2 (io) "PB2/TSC_G3_IO4", 29 PB10 (io) "PB10/SPI2_SCK,I2C2_SCL,USART3_TX,CEC,TSC_SYNC,TIM2_CH3", 30 PB11 (io) "PB11/USART3_RX,TIM2_CH4,EVENTOUT,TSC_G6_IO1,I2C2_SDA", 33 PB12 (io) "PB12/TIM1_BKIN,TIM15_BKIN,SPI2_NSS,I2S2_WS,USART3_CK,TSC_G6_IO2,EVENTOUT", 34 PB13 (io) "PB13/SPI2_SCK,I2S2_CK,I2C2_SCL,USART3_CTS,TIM1_CH1N,TSC_G6_IO3", 35 PB14 (io) "PB14/SPI2_MISO,I2S2_MCK,I2C2_SDA,USART3_RTS,TIM1_CH2N,TIM15_CH1,TSC_G6_IO4", 36 PB15 (io) "PB15/SPI2_MOSI,I2S2_SD,TIM1_CH3N,TIM15_CH1N,TIM15_CH2/WKUP7,RTC_REFIN", 37 PC6 (io) "PC6/TIM3_CH1", 38 PC7 (io) "PC7/TIM3_CH2", 39 PC8 (io) "PC8/TIM3_CH3", 40 PC9 (io) "PC9/TIM3_CH4", 41 PA8 (io) "PA8/USART1_CK,TIM1_CH1,EVENTOUT,MCO,CRS_SYNC", 42 PA9 (io) "PA9/USART1_TX,TIM1_CH2,TIM15_BKIN,TSC_G4_IO1", 43 PA10 (io) "PA10/USART1_RX,TIM1_CH3,TIM17_BKIN,TSC_G4_IO2", 44 PA11 (io) "PA11/USART1_CTS,TIM1_CH4,COMP1_OUT,TSC_G4_IO3,EVENTOUT", 45 PA12 (io) "PA12/USART1_RTS,TIM1_ETR,COMP2_OUT,TSC_G4_IO4,EVENTOUT", 46 PA13 (io) "PA13/IR_OUT,SWDIO", 49 PA14 (io) "PA14/USART2_TX,SWCLK", 50 PA15 (io) "PA15/SPI1_NSS,I2S1_WS,USART2_RX,USART4_RTS,TIM2_CH1_ETR,EVENTOUT", 51 PC10 (io) "PC10/USART3_TX,USART4_TX", 52 PC11 (io) "PC11/USART3_RX,USART4_RX", 53 PC12 (io) "PC12/USART3_CK,USART4_CK", 54 PD2 (io) "PD2/USART3_RTS,TIM3_ETR", 55 PB3 (io) "PB3/SPI1_SCK,I2S1_CK,TIM2_CH2,TSC_G5_IO1,EVENTOUT", 56 PB4 (io) "PB4/SPI1_MISO,I2S1_MCK,TIM17_BKIN,TIM3_CH1,TSC_G5_IO2,EVENTOUT", 57 PB5 (io) "PB5/SPI1_MOSI,I2S1_SD,I2C1_SMBA,TIM16_BKIN,TIM3_CH2/WKUP6", 58 PB6 (io) "PB6/I2C1_SCL,USART1_TX,TIM16_CH1N,TSC_G5_I03", 59 PB7 (io) "PB7/I2C1_SDA,USART1_RX,USART4_CTS,TIM17_CH1N,TSC_G5_IO4", 60 BOOT0 (in) "Boot memory selection", 61 PB8 (io) "PB8/I2C1_SCL,CEC,TIM16_CH1,TSC_SYNC", 62 PB9 (io) "PB9/SPI2_NSS,I2S2_WS,I2C1_SDA,IR_OUT,TIM17_CH1,EVENTOUT"
part B pins: 1 VBAT (power) "Backup power supply", 12 VSSA (power) "Analog ground", 13 VDDA (power) "Analog power supply", 18 VSS (power) "Ground", 19 VDD (power) "Digital power supply", 31 VSS (power) "Ground", 32 VDD (power) "Digital power supply", 47 VSS (power) "Ground", 48 VDDIO2 (power) "Digital power supply", 63 VSS (power) "Ground", 64 VDD (power) "Digital power supply"

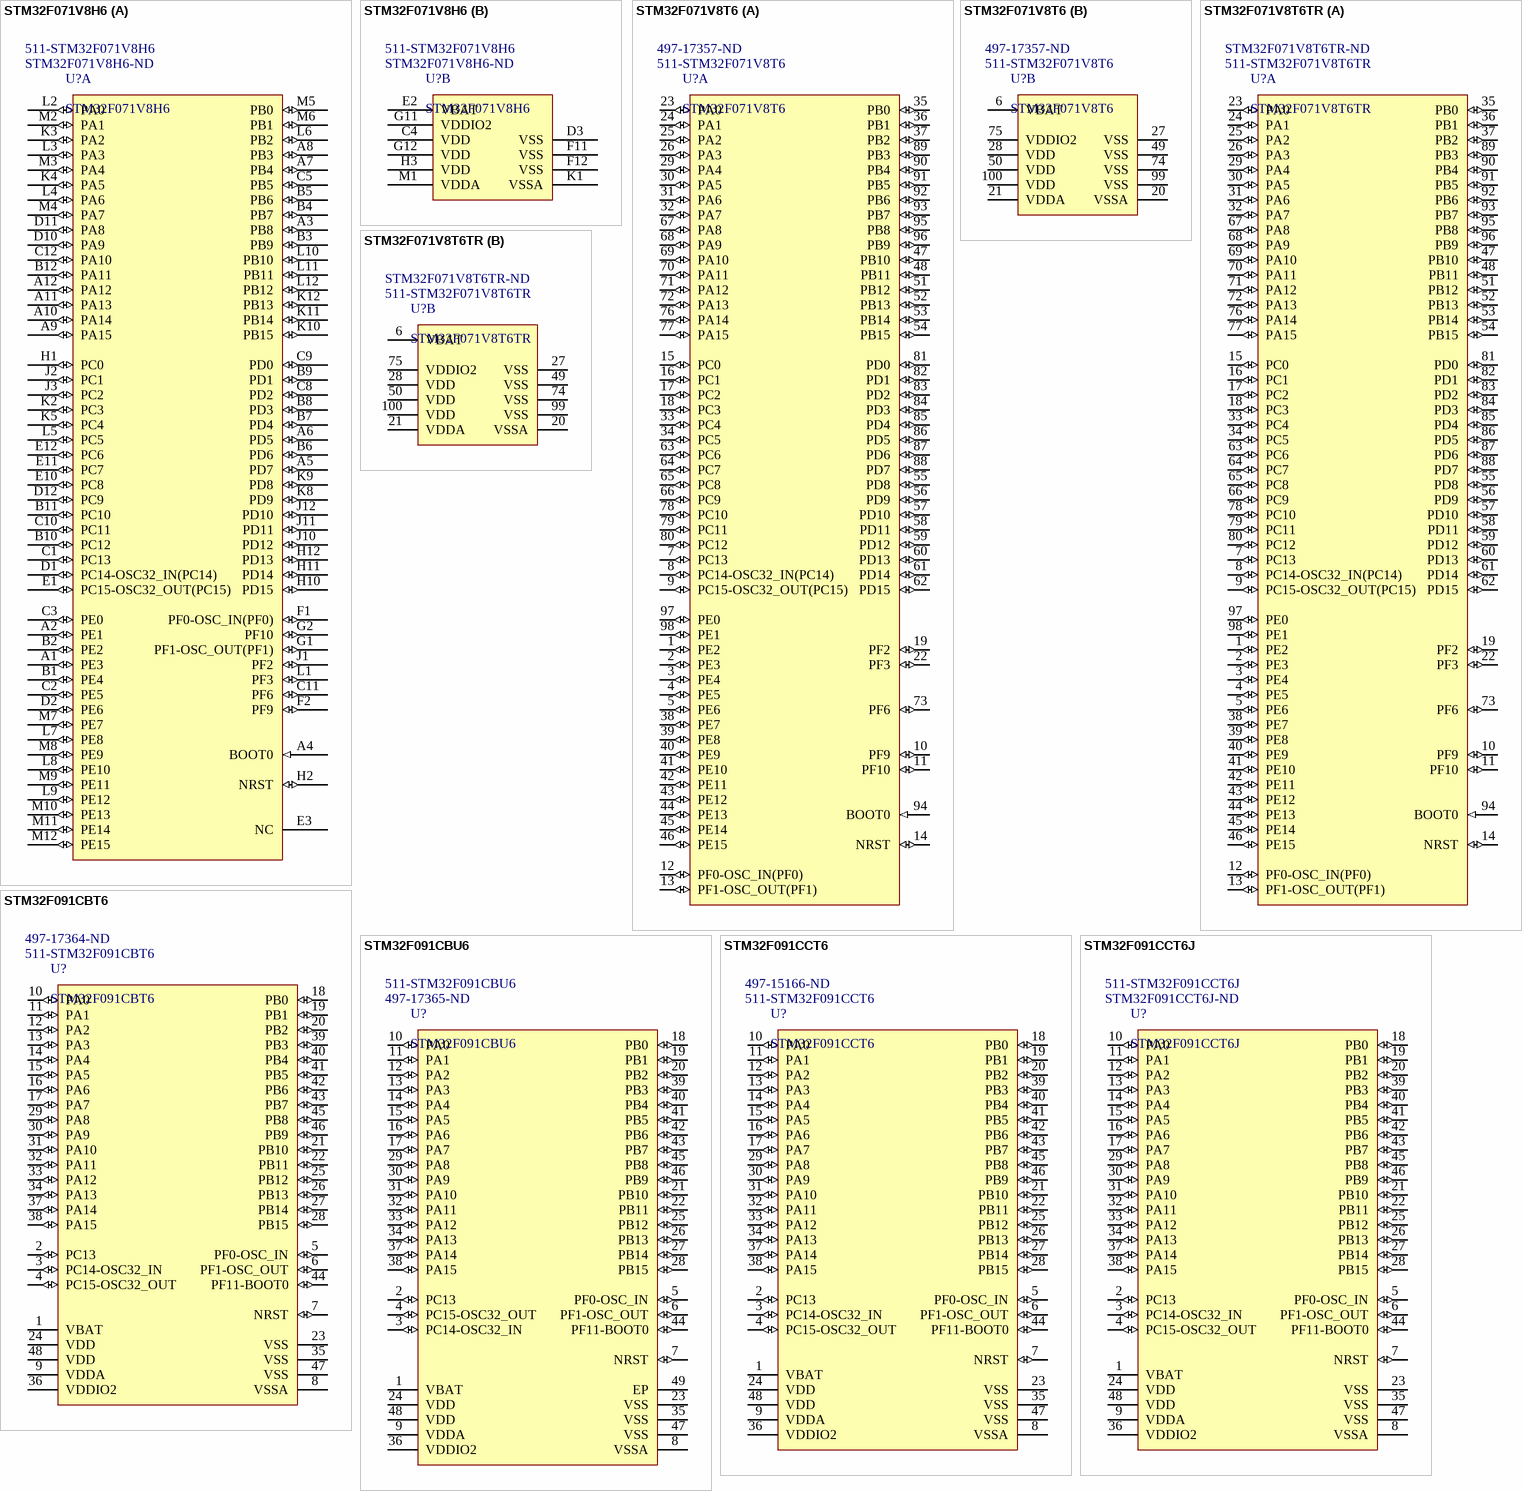
[diagram p13: symbols STM32F071V8H6 to STM32F091CCT6J]

## STM32F071V8H6
designator U?  Supplier Part Number 1: STM32F071V8H6-ND  Supplier Part Number 2: 511-STM32F071V8H6
ARM Cortex-M0 32-bit MCU, 64 KB Flash, 16 KB Internal RAM, 87 I/Os, 100-Pin UFBGA, -40 to 85 degC, Tray; Internal RAM Size (kB): 16; I/Os (High Current): 87; FLASH Size (Prog) (kB): 64; Operating Frequency(F) (Processor speed) (MHz): 48; Supply Voltage(Vcc) min (V): 2; Mounting Technology: Surface Mount; ComponentLink2URL: http://www.st.com/st-web-ui/static/active/en/resource/technical/document/datasheet/DM00098745.pdf; Packing: Tray; Package Description: 100-Ball Ultra Thin Fine Pitch Ball Grid Array, 7 x 7 x 0.6 mm Body, 0.5 mm Pitch; DatasheetVersion: Rev. 6; ComponentLink1URL: http://www.st.com/; Package Reference: UFBGA100; ComponentLink2Description: Datasheet; D/A Converter: 2; ComponentLink1Description: Manufacturer URL; Core: ARM Cortex-M0; Supplier 1: Digi-Key; Supplier 2: Mouser
footprint STM-UFBGA100 (BGA, 100-Balls, Body 7x7mm, Pitch 0.5mm)
part A pins: A1 PE3 (io) "PE3/TSC_G7_IO2,TIM3_CH1", A2 PE1 (io) "PE1/EVENTOUT,TIM17_CH1", A3 PB8 (io) "PB8/I2C1_SCL,CEC,TIM16_CH1,TSC_SYNC", A4 BOOT0 (in) "Boot memory selection", A5 PD7 (io) "PD7/USART2_CK", A6 PD5 (io) "PD5/USART2_TX", A7 PB4 (io) "PB4/SPI1_MISO,I2S1_MCK,TIM17_BKIN,TIM3_CH1,TSC_G5_IO2,EVENTOUT", A8 PB3 (io) "PB3/SPI1_SCK,I2S1_CK,TIM2_CH2,TSC_G5_IO1,EVENTOUT", A9 PA15 (io) "PA15/SPI1_NSS,I2S1_WS,USART2_RX,USART4_RTS,TIM2_CH1_ETR,EVENTOUT", A10 PA14 (io) "PA14/USART2_TX,SWCLK", A11 PA13 (io) "PA13/IR_OUT,SWDIO", A12 PA12 (io) "PA12/USART1_RTS,TIM1_ETR,COMP2_OUT,TSC_G4_IO4,EVENTOUT", B1 PE4 (io) "PE4/TSC_G7_IO3,TIM3_CH2", B2 PE2 (io) "PE2/TSC_G7_IO1,TIM3_ETR", B3 PB9 (io) "PB9/SPI2_NSS,I2S2_WS,I2C1_SDA,IR_OUT,TIM17_CH1,EVENTOUT", B4 PB7 (io) "PB7/I2C1_SDA,USART1_RX,USART4_CTS,TIM17_CH1N,TSC_G5_IO4", B5 PB6 (io) "PB6/I2C1_SCL,USART1_TX,TIM16_CH1N,TSC_G5_IO3", B6 PD6 (io) "PD6/USART2_RX", B7 PD4 (io) "PD4/SPI2_MOSI,I2S2_SD,USART2_RTS", B8 PD3 (io) "PD3/SPI2_MISO,I2S2_MCK,USART2_CTS", B9 PD1 (io) "PD1/SPI2_SCK,I2S2_CK", B10 PC12 (io) "PC12/USART3_CK,USART4_CK", B11 PC10 (io) "PC10/USART3_TX,USART4_TX", B12 PA11 (io) "PA11/USART1_CTS,TIM1_CH4,COMP1_OUT,TSC_G4_IO3,EVENTOUT", C1 PC13 (io) "PC13/WKUP2,RTC_TAMP1,RTC_TS,RTC_OUT", C2 PE5 (io) "PE5/TSC_G7_IO4,TIM3_CH3", C3 PE0 (io) "PE0/EVENTOUT,TIM16_CH1", C5 PB5 (io) "PB5/SPI1_MOSI,I2S1_SD,I2C1_SMBA,TIM16_BKIN,TIM3_CH2/WKUP6", C8 PD2 (io) "PD2/USART3_RTS,TIM3_ETR", C9 PD0 (io) "PD0/SPI2_NSS,I2S2_WS", C10 PC11 (io) "PC11/USART3_RX,USART4_RX", C11 PF6 (io), C12 PA10 (io) "PA10/USART1_RX,TIM1_CH3,TIM17_BKIN,TSC_G4_IO2", D1 PC14-OSC32_IN(PC14) (io) "PC14-OSC32_IN(PC14)/OSC32_IN", D2 PE6 (io) "PE6/TIM3_CH4/WKUP3,RTC_TAMP3", D10 PA9 (io) "PA9/USART1_TX,TIM1_CH2,TIM15_BKIN,TSC_G4_IO1", D11 PA8 (io) "PA8/USART1_CK,TIM1_CH1,EVENTOUT,MCO,CRS_SYNC", D12 PC9 (io) "PC9/TIM3_CH4", E1 PC15-OSC32_OUT(PC15) (io) "PC15-OSC32_OUT(PC15)/OSC32_OUT", E3 NC, E10 PC8 (io) "PC8/TIM3_CH3", E11 PC7 (io) "PC7/TIM3_CH2", E12 PC6 (io) "PC6/TIM3_CH1", F1 PF0-OSC_IN(PF0) (io) "PF0-OSC_IN(PF0)/CRS_SYNC/OSC_IN", F2 PF9 (io) "PF9/TIM15_CH1", G1 PF1-OSC_OUT(PF1) (io) "PF1-OSC_OUT(PF1)/OSC_OUT", G2 PF10 (io) "PF10/TIM15_CH2", H1 PC0 (io) "PC0/EVENTOUT/ADC_IN10", H2 NRST (io) "Device reset input/internal reset output(active low)", H10 PD15 (io) "PD15/TSC_G8_IO4,CRS_SYNC", H11 PD14 (io) "PD14/TSC_G8_IO3", H12 PD13 (io) "PD13/TSC_G8_IO2", J1 PF2 (io) "PF2/EVENTOUT/WKUP8", J2 PC1 (io) "PC1/EVENTOUT/ADC_IN11", J3 PC2 (io) "PC2/SPI2_MISO,I2S2_MCK,EVENTOUT/ADC_IN12", J10 PD12 (io) "PD12/USART3_RTS,TSC_G8_IO1", J11 PD11 (io) "PD11/USART3_CTS", J12 PD10 (io) "PD10/USART3_CK", K2 PC3 (io) "PC3/SPI2_MOSI,I2S2_SD,EVENTOUT/ADC_IN13", K3 PA2 (io) "PA2/USART2_TX,TIM2_CH3,TIM15_CH1,TSC_G1_IO3/ADC_IN2,COMP2_OUT,COMP2_INM6,WKUP4", K4 PA5 (io) "PA5/SPI1_SCK,I2S1_CK,CEC,TIM2_CH1_ETR,TSC_G2_IO2/COMP1_INM5,COMP2_INM5,ADC_IN5,DAC_OUT2", K5 PC4 (io) "PC4/EVENTOUT,USART3_TX/ADC_IN14", K8 PD9 (io) "PD9/USART3_RX", K9 PD8 (io) "PD8/USART3_TX", K10 PB15 (io) "PB15/SPI2_MOSI,I2S2_SD,TIM1_CH3N,TIM15_CH1N,TIM15_CH2/WKUP7,RTC_REFIN", K11 PB14 (io) "PB14/SPI2_MISO,I2S2_MCK,I2C2_SDA,USART3_RTS,TIM1_CH2N,TIM15_CH1,TSC_G6_IO4", K12 PB13 (io) "PB13/SPI2_SCK,I2S2_CK,I2C2_SCL,USART3_CTS,TIM1_CH1N,TSC_G6_IO3", L1 PF3 (io) "PF3/EVENTOUT", L2 PA0 (io) "PA0/USART2_CTS,TIM2_CH1_ETR,TSC_G1_IO1,USART4_TX/RTC_TAMP2,WKUP1,COMP1_OUT,ADC_IN0,COMP1_INM6", L3 PA3 (io) "PA3/USART2_RX,TIM2_CH4,TIM15_CH2,TSC_G1_IO4/ADC_IN3,COMP2_INP", L4 PA6 (io) "PA6/SPI1_MISO,I2S1_MCK,TIM3_CH1,TIM1_BKIN,TIM16_CH1,COMP1_OUT,TSC_G2_IO3,EVENTOUT,USART3_CTS/ADC_IN6", L5 PC5 (io) "PC5/TSC_G3_IO1,USART3_RX/ADC_IN15,WKUP5", L6 PB2 (io) "PB2/TSC_G3_IO4", L7 PE8 (io) "PE8/TIM1_CH1N", L8 PE10 (io) "PE10/TIM1_CH2N", L9 PE12 (io) "PE12/SPI1_NSS,I2S1_WS,TIM1_CH3N", L10 PB10 (io) "PB10/SPI2_SCK,I2C2_SCL,USART3_TX,CEC,TSC_SYNC,TIM2_CH3", L11 PB11 (io) "PB11/USART3_RX,TIM2_CH4,EVENTOUT,TSC_G6_IO1,I2C2_SDA", L12 PB12 (io) "PB12/TIM1_BKIN,TIM15_BKIN,SPI2_NSS,I2S2_WS,USART3_CK,TSC_G6_IO2,EVENTOUT", M2 PA1 (io) "PA1/USART2_RTS,TIM2_CH2,TIM15_CH1N,TSC_G1_IO2,USART4_RX,EVENTOUT/ADC_IN1,COMP1_INP", M3 PA4 (io) "PA4/SPI1_NSS,I2S1_WS,TIM14_CH1,TSC_G2_IO1,USART2_CK/COMP1_INM4,COMP2_INM4,ADC_IN4,DAC_OUT1", M4 PA7 (io) "PA7/SPI1_MOSI,I2S1_SD,TIM3_CH2,TIM14_CH1,TIM1_CH1N,TIM17_CH1,COMP2_OUT,TSC_G2_IO4,EVENTOUT/ADC_IN7", M5 PB0 (io) "PB0/TIM3_CH3,TIM1_CH2N,TSC_G3_IO2,EVENTOUT,USART3_CK/ADC_IN8", M6 PB1 (io) "PB1/TIM3_CH4,USART3_RTS,TIM14_CH1,TIM1_CH3N,TSC_G3_IO3/ADC_IN9", M7 PE7 (io) "PE7/TIM1_ETR", M8 PE9 (io) "PE9/TIM1_CH1", M9 PE11 (io) "PE11/TIM1_CH2", M10 PE13 (io) "PE13/SPI1_SCK,I2S1_CK,TIM1_CH3", M11 PE14 (io) "PE14/SPI1_MISO,I2S1_MCK,TIM1_CH4", M12 PE15 (io) "PE15/SPI1_MOSI,I2S1_SD,TIM1_BKIN"
part B pins: C4 VDD (power) "Digital power supply", D3 VSS (power) "Ground", E2 VBAT (power) "Backup power supply", F11 VSS (power) "Ground", F12 VSS (power) "Ground", G11 VDDIO2 (power) "Digital power supply", G12 VDD (power) "Digital power supply", H3 VDD (power) "Digital power supply", K1 VSSA (power) "Analog ground", M1 VDDA (power) "Analog power supply"

## STM32F071V8T6
designator U?  Supplier Part Number 1: 511-STM32F071V8T6  Supplier Part Number 2: 497-17357-ND
ARM Cortex-M0 32-bit MCU, 64 KB Flash, 16 KB Internal RAM, 87 I/Os, 100-Pin LQFP, -40 to 85 degC, Tray; Internal RAM Size (kB): 16; FLASH Size (Prog) (kB): 64; D/A Converter: 2; Operating Frequency(F) (Processor speed) (MHz): 48; I/Os (High Current): 87; Packing: Tray; Supply Voltage(Vcc) min (V): 2; ComponentLink2URL: http://www.st.com/st-web-ui/static/active/en/resource/technical/document/datasheet/DM00098745.pdf; ComponentLink1Description: Manufacturer URL; ComponentLink2Description: Datasheet; DatasheetVersion: Rev. 6; Package Reference: LQFP100; ComponentLink1URL: http://www.st.com/; Package Description: 100-Pin Low Profile Quad Flat Package, Body 14 x 14 mm, Pitch 0.5 mm; Mounting Technology: Surface Mount; Core: ARM Cortex-M0; Supplier 1: Mouser; Supplier 2: Digi-Key
footprint STM-LQFP100_L (Thin QFP, 100-Leads, Body 14x14mm, Pitch 0.5mm, IPC High Density)
footprint STM-LQFP100_M (Thin QFP, 100-Leads, Body 14x14mm, Pitch 0.5mm, IPC Low Density)
footprint STM-LQFP100_N (Thin QFP, 100-Leads, Body 14x14mm, Pitch 0.5mm, IPC Medium Density)
part A pins: 1 PE2 (io) "PE2/TSC_G7_IO1,TIM3_ETR", 2 PE3 (io) "PE3/TSC_G7_IO2,TIM3_CH1", 3 PE4 (io) "PE4/TSC_G7_IO3,TIM3_CH2", 4 PE5 (io) "PE5/TSC_G7_IO4,TIM3_CH3", 5 PE6 (io) "PE6/TIM3_CH4/WKUP3,RTC_TAMP3", 7 PC13 (io) "PC13/WKUP2,RTC_TAMP1,RTC_TS,RTC_OUT", 8 PC14-OSC32_IN(PC14) (io) "PC14-OSC32_IN(PC14)/OSC32_IN", 9 PC15-OSC32_OUT(PC15) (io) "PC15-OSC32_OUT(PC15)/OSC32_OUT", 10 PF9 (io) "PF9/TIM15_CH1", 11 PF10 (io) "PF10/TIM15_CH2", 12 PF0-OSC_IN(PF0) (io) "PF0-OSC_IN(PF0)/CRS_SYNC/OSC_IN", 13 PF1-OSC_OUT(PF1) (io) "PF1-OSC_OUT(PF1)/OSC_OUT", 14 NRST (io) "Device reset input/internal reset output(active low)", 15 PC0 (io) "PC0/EVENTOUT/ADC_IN10", 16 PC1 (io) "PC1/EVENTOUT/ADC_IN11", 17 PC2 (io) "PC2/SPI2_MISO,I2S2_MCK,EVENTOUT/ADC_IN12", 18 PC3 (io) "PC3/SPI2_MOSI,I2S2_SD,EVENTOUT/ADC_IN13", 19 PF2 (io) "PF2/EVENTOUT/WKUP8", 22 PF3 (io) "PF3/EVENTOUT", 23 PA0 (io) "PA0/USART2_CTS,TIM2_CH1_ETR,TSC_G1_IO1,USART4_TX/RTC_TAMP2,WKUP1,COMP1_OUT,ADC_IN0,COMP1_INM6", 24 PA1 (io) "PA1/USART2_RTS,TIM2_CH2,TIM15_CH1N,TSC_G1_IO2,USART4_RX,EVENTOUT/ADC_IN1,COMP1_INP", 25 PA2 (io) "PA2/USART2_TX,TIM2_CH3,TIM15_CH1,TSC_G1_IO3/ADC_IN2,COMP2_OUT,COMP2_INM6,WKUP4", 26 PA3 (io) "PA3/USART2_RX,TIM2_CH4,TIM15_CH2,TSC_G1_IO4/ADC_IN3,COMP2_INP", 29 PA4 (io) "PA4/SPI1_NSS,I2S1_WS,TIM14_CH1,TSC_G2_IO1,USART2_CK/COMP1_INM4,COMP2_INM4,ADC_IN4,DAC_OUT1", 30 PA5 (io) "PA5/SPI1_SCK,I2S1_CK,CEC,TIM2_CH1_ETR,TSC_G2_IO2/COMP1_INM5,COMP2_INM5,ADC_IN5,DAC_OUT2", 31 PA6 (io) "PA6/SPI1_MISO,I2S1_MCK,TIM3_CH1,TIM1_BKIN,TIM16_CH1,COMP1_OUT,TSC_G2_IO3,EVENTOUT,USART3_CTS/ADC_IN6", 32 PA7 (io) "PA7/SPI1_MOSI,I2S1_SD,TIM3_CH2,TIM14_CH1,TIM1_CH1N,TIM17_CH1,COMP2_OUT,TSC_G2_IO4,EVENTOUT/ADC_IN7", 33 PC4 (io) "PC4/EVENTOUT,USART3_TX/ADC_IN14", 34 PC5 (io) "PC5/TSC_G3_IO1,USART3_RX/ADC_IN15,WKUP5", 35 PB0 (io) "PB0/TIM3_CH3,TIM1_CH2N,TSC_G3_IO2,EVENTOUT,USART3_CK/ADC_IN8", 36 PB1 (io) "PB1/TIM3_CH4,USART3_RTS,TIM14_CH1,TIM1_CH3N,TSC_G3_IO3/ADC_IN9", 37 PB2 (io) "PB2/TSC_G3_IO4", 38 PE7 (io) "PE7/TIM1_ETR", 39 PE8 (io) "PE8/TIM1_CH1N", 40 PE9 (io) "PE9/TIM1_CH1", 41 PE10 (io) "PE10/TIM1_CH2N", 42 PE11 (io) "PE11/TIM1_CH2", 43 PE12 (io) "PE12/SPI1_NSS,I2S1_WS,TIM1_CH3N", 44 PE13 (io) "PE13/SPI1_SCK,I2S1_CK,TIM1_CH3", 45 PE14 (io) "PE14/SPI1_MISO,I2S1_MCK,TIM1_CH4", 46 PE15 (io) "PE15/SPI1_MOSI,I2S1_SD,TIM1_BKIN", 47 PB10 (io) "PB10/SPI2_SCK,I2C2_SCL,USART3_TX,CEC,TSC_SYNC,TIM2_CH3", 48 PB11 (io) "PB11/USART3_RX,TIM2_CH4,EVENTOUT,TSC_G6_IO1,I2C2_SDA", 51 PB12 (io) "PB12/TIM1_BKIN,TIM15_BKIN,SPI2_NSS,I2S2_WS,USART3_CK,TSC_G6_IO2,EVENTOUT", 52 PB13 (io) "PB13/SPI2_SCK,I2S2_CK,I2C2_SCL,USART3_CTS,TIM1_CH1N,TSC_G6_IO3", 53 PB14 (io) "PB14/SPI2_MISO,I2S2_MCK,I2C2_SDA,USART3_RTS,TIM1_CH2N,TIM15_CH1,TSC_G6_IO4", 54 PB15 (io) "PB15/SPI2_MOSI,I2S2_SD,TIM1_CH3N,TIM15_CH1N,TIM15_CH2/WKUP7,RTC_REFIN", 55 PD8 (io) "PD8/USART3_TX", 56 PD9 (io) "PD9/USART3_RX", 57 PD10 (io) "PD10/USART3_CK", 58 PD11 (io) "PD11/USART3_CTS", 59 PD12 (io) "PD12/USART3_RTS,TSC_G8_IO1", 60 PD13 (io) "PD13/TSC_G8_IO2", 61 PD14 (io) "PD14/TSC_G8_IO3", 62 PD15 (io) "PD15/TSC_G8_IO4,CRS_SYNC", 63 PC6 (io) "PC6/TIM3_CH1", 64 PC7 (io) "PC7/TIM3_CH2", 65 PC8 (io) "PC8/TIM3_CH3", 66 PC9 (io) "PC9/TIM3_CH4", 67 PA8 (io) "PA8/USART1_CK,TIM1_CH1,EVENTOUT,MCO,CRS_SYNC", 68 PA9 (io) "PA9/USART1_TX,TIM1_CH2,TIM15_BKIN,TSC_G4_IO1", 69 PA10 (io) "PA10/USART1_RX,TIM1_CH3,TIM17_BKIN,TSC_G4_IO2", 70 PA11 (io) "PA11/USART1_CTS,TIM1_CH4,COMP1_OUT,TSC_G4_IO3,EVENTOUT", 71 PA12 (io) "PA12/USART1_RTS,TIM1_ETR,COMP2_OUT,TSC_G4_IO4,EVENTOUT", 72 PA13 (io) "PA13/IR_OUT,SWDIO", 73 PF6 (io), 76 PA14 (io) "PA14/USART2_TX,SWCLK", 77 PA15 (io) "PA15/SPI1_NSS,I2S1_WS,USART2_RX,USART4_RTS,TIM2_CH1_ETR,EVENTOUT", 78 PC10 (io) "PC10/USART3_TX,USART4_TX", 79 PC11 (io) "PC11/USART3_RX,USART4_RX", 80 PC12 (io) "PC12/USART3_CK,USART4_CK", 81 PD0 (io) "PD0/SPI2_NSS,I2S2_WS", 82 PD1 (io) "PD1/SPI2_SCK,I2S2_CK", 83 PD2 (io) "PD2/USART3_RTS,TIM3_ETR", 84 PD3 (io) "PD3/SPI2_MISO,I2S2_MCK,USART2_CTS", 85 PD4 (io) "PD4/SPI2_MOSI,I2S2_SD,USART2_RTS", 86 PD5 (io) "PD5/USART2_TX", 87 PD6 (io) "PD6/USART2_RX", 88 PD7 (io) "PD7/USART2_CK", 89 PB3 (io) "PB3/SPI1_SCK,I2S1_CK,TIM2_CH2,TSC_G5_IO1,EVENTOUT", 90 PB4 (io) "PB4/SPI1_MISO,I2S1_MCK,TIM17_BKIN,TIM3_CH1,TSC_G5_IO2,EVENTOUT", 91 PB5 (io) "PB5/SPI1_MOSI,I2S1_SD,I2C1_SMBA,TIM16_BKIN,TIM3_CH2/WKUP6", 92 PB6 (io) "PB6/I2C1_SCL,USART1_TX,TIM16_CH1N,TSC_G5_IO3", 93 PB7 (io) "PB7/I2C1_SDA,USART1_RX,USART4_CTS,TIM17_CH1N,TSC_G5_IO4", 94 BOOT0 (in) "Boot memory selection", 95 PB8 (io) "PB8/I2C1_SCL,CEC,TIM16_CH1,TSC_SYNC", 96 PB9 (io) "PB9/SPI2_NSS,I2S2_WS,I2C1_SDA,IR_OUT,TIM17_CH1,EVENTOUT", 97 PE0 (io) "PE0/EVENTOUT,TIM16_CH1", 98 PE1 (io) "PE1/EVENTOUT,TIM17_CH1"
part B pins: 6 VBAT (power) "Backup power supply", 20 VSSA (power) "Analog ground", 21 VDDA (power) "Analog power supply", 27 VSS (power) "Ground", 28 VDD (power) "Digital power supply", 49 VSS (power) "Ground", 50 VDD (power) "Digital power supply", 74 VSS (power) "Ground", 75 VDDIO2 (power) "Digital power supply", 99 VSS (power) "Ground", 100 VDD (power) "Digital power supply"